# EAGLE library part ATMEGA328PB (library Custom)
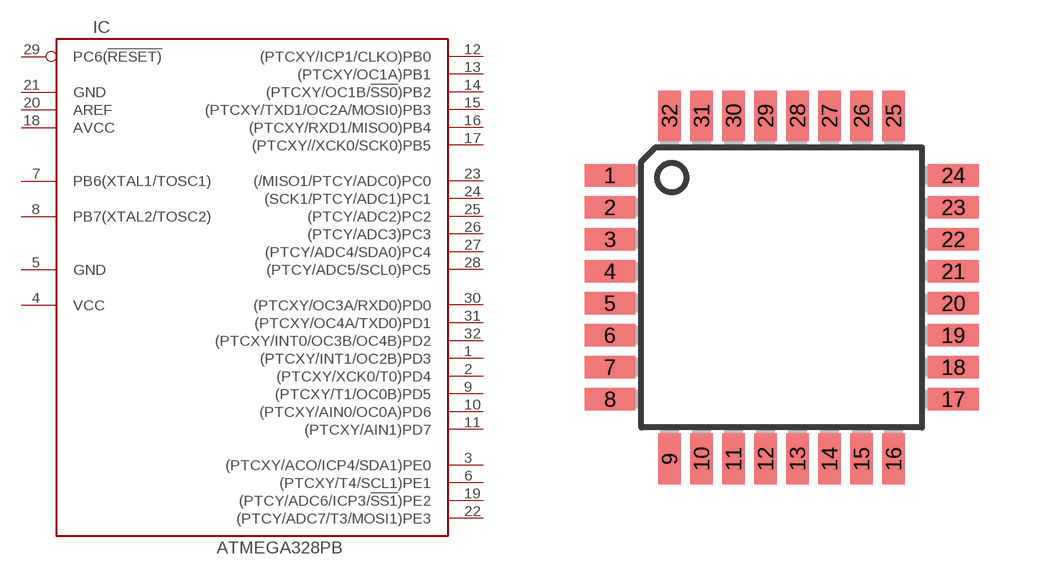
[diagram p39: symbol with the pads of TQFP32-08; footprint TQFP32-08]

Designator prefix IC

## ATMEGA328PB-AU  [TQFP32-08]
1  (PTCXY/INT1/OC2B)PD3
2  (PTCXY/XCK0/T0)PD4
3  (PTCXY/ACO/ICP4/SDA1)PE0
4  VCC  pwr
5  GND  pwr
6  (PTCXY/T4/SCL1)PE1
7  PB6(XTAL1/TOSC1)
8  PB7(XTAL2/TOSC2)
9  (PTCXY/T1/OC0B)PD5
10  (PTCXY/AIN0/OC0A)PD6
11  (PTCXY/AIN1)PD7
12  (PTCXY/ICP1/CLKO)PB0
13  (PTCXY/OC1A)PB1
14  (PTCXY/OC1B/!SS0!)PB2
15  (PTCXY/TXD1/OC2A/MOSI0)PB3
16  (PTCXY/RXD1/MISO0)PB4
17  (PTCXY//XCK0/SCK0)PB5
18  AVCC  pas
19  (PTCY/ADC6/ICP3/!SS1!)PE2
20  AREF  pas
21  GND  pwr
22  (PTCY/ADC7/T3/MOSI1)PE3
23  (/MISO1/PTCY/ADC0)PC0
24  (SCK1/PTCY/ADC1)PC1
25  (PTCY/ADC2)PC2
26  (PTCY/ADC3)PC3
27  (PTCY/ADC4/SDA0)PC4
28  (PTCY/ADC5/SCL0)PC5
29  PC6(!RESET)
30  (PTCXY/OC3A/RXD0)PD0
31  (PTCXY/OC4A/TXD0)PD1
32  (PTCXY/INT0/OC3B/OC4B)PD2

## Footprint TQFP32-08 (pad centres in mm)
Thin Plasic Quad Flat Package Grid 0.8 mm
smd 1.27 x 0.559: 1 -4.293,2.8; 2 -4.293,2; 3 -4.293,1.2; 4 -4.293,0.4; 5 -4.293,-0.4; 6 -4.293,-1.2; 7 -4.293,-2; 8 -4.293,-2.8; 17 4.293,-2.8; 18 4.293,-2; 19 4.293,-1.2; 20 4.293,-0.4; 21 4.293,0.4; 22 4.293,1.2; 23 4.293,2; 24 4.293,2.8
smd 0.559 x 1.27: 9 -2.8,-4.293; 10 -2,-4.293; 11 -1.2,-4.293; 12 -0.4,-4.293; 13 0.4,-4.293; 14 1.2,-4.293; 15 2,-4.293; 16 2.8,-4.293; 25 2.8,4.293; 26 2,4.293; 27 1.2,4.293; 28 0.4,4.293; 29 -0.4,4.293; 30 -1.2,4.293; 31 -2,4.293; 32 -2.8,4.293